# Altium schematic symbol library MUSBRM1C130.SchLib: 1 symbol
Pins are listed as number, name and electrical type; pins without a type are passive.

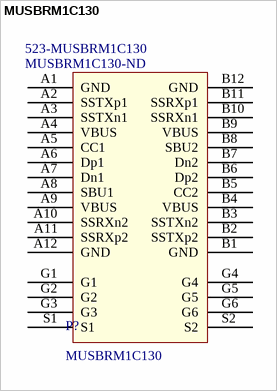
[diagram p0: symbol MUSBRM1C130]

## MUSBRM1C130
designator P?  Supplier Part Number 1: MUSBRM1C130-ND  Supplier Part Number 2: 523-MUSBRM1C130
RUGGED USB TYPE 'C' RECEPTACLE, RIGHT ANGLE, PCB MOUNT; Supplier 1: Digi-Key; Supplier 2: Mouser
footprint P-MUSBR-M1C1-XX (RUGGED USB TYPE 'C' RECEPTACLE, RIGHT ANGLE, PCB MOUNT)
pins: A1 GND, A2 SSTXp1, A3 SSTXn1, A4 VBUS, A5 CC1, A6 Dp1, A7 Dn1, A8 SBU1, A9 VBUS, A10 SSRXn2, A11 SSRXp2, A12 GND, B1 GND, B2 SSTXp2, B3 SSTXn2, B4 VBUS, B5 CC2, B6 Dp2, B7 Dn2, B8 SBU2, B9 VBUS, B10 SSRXn1, B11 SSRXp1, B12 GND, G1, G2, G3, G4, G5, G6, S1, S2